# Altium footprint library PassiveSMT.PcbLib: 41 footprints (part 1 of 3)
Each footprint in its own frame and in the unit in brackets; x right, y up, seen from the top. Pads: shape width x height; smd on the part's side, far side on the other; paste and mask are expansions set on the pad; w line width, h text height; cw(c..) or ccw(c..) is an arc to the next point about the centre after c.
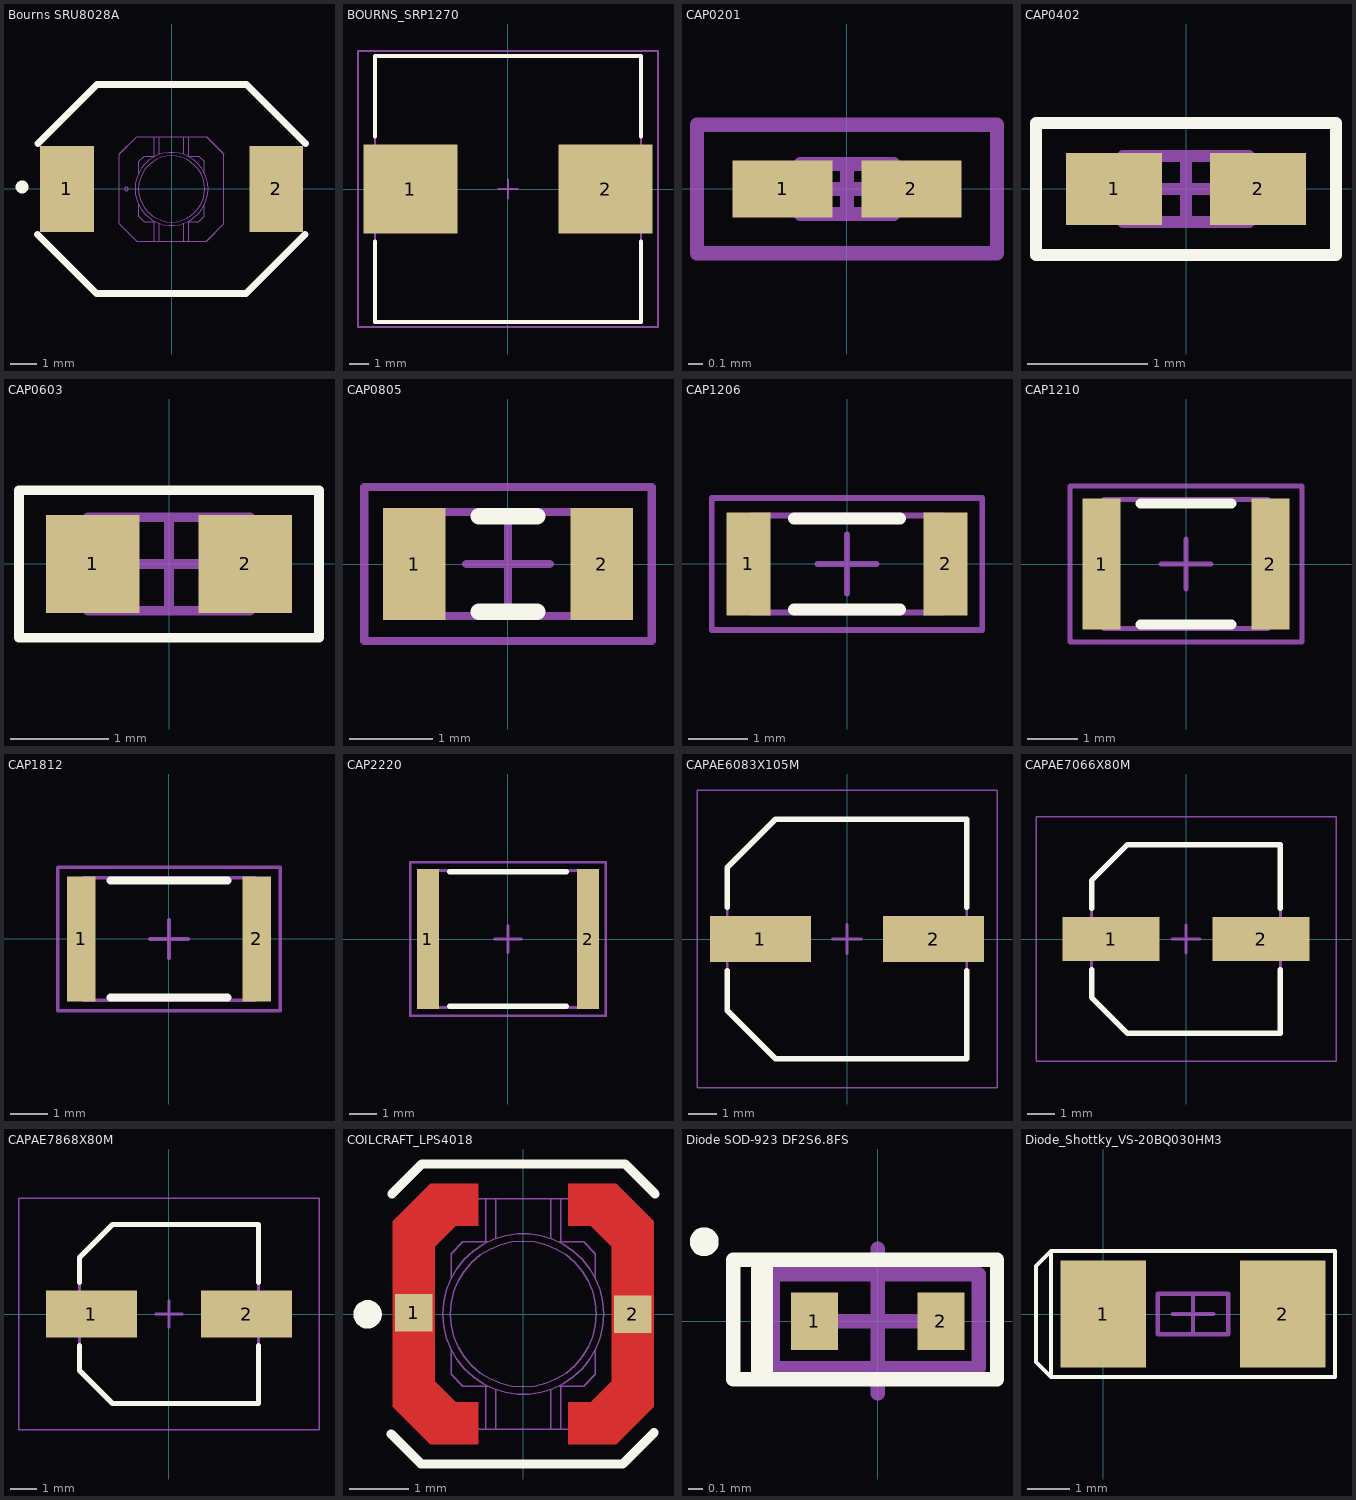
[diagram p0: the footprints below, top view; thin cyan lines are the x and y axes]

## Bourns SRU8028A [mm] "SRU8028A"
pads (2):
  rect 2x3.2 smd: 1(-3.9,0) 2(3.9,0)
Top Overlay:
  circle w0.254: c-5.575,0.075 r0.114
  lines w0.254: -5,-1.705 -2.8,-3.905 2.775,-3.905 4.975,-1.705 ; 5,1.7 2.8,3.9 -2.775,3.9 -4.975,1.7 ; -4.975,1.7 -4.975,1.7 ; 4.975,-1.705 4.975,-1.705
Mechanical 15:
  circle w0.025: c0,0 r1.235
  circle w0.025: c0,0 r1.361
  circle w0.025: c-1.684,0 r0.068
  lines w0.025: -1.948,0 -1.948,-1.304 -1.304,-1.948 0,-1.948 1.304,-1.948 1.948,-1.304 1.948,0 1.948,1.304 1.304,1.948 0,1.948 -1.304,1.948 -1.948,1.304 -1.948,0.017 ; -1.222,-0.594 -1.222,-1.024 -1.024,-1.222 -0.594,-1.222 ; -1.222,0.611 -1.222,1.024 -1.024,1.222 -0.611,1.222 ; -0.636,-1.948 -0.636,-1.205 ; -0.636,1.205 -0.636,1.948 ; -0.462,-1.948 -0.462,-1.288 ; -0.462,1.288 -0.462,1.948 ; 0.462,-1.948 0.462,-1.288 ; 0.462,1.288 0.462,1.948 ; 0.611,-1.222 1.024,-1.222 1.222,-1.024 1.222,-0.611 ; 0.611,1.222 1.024,1.222 1.222,1.024 1.222,0.611 ; 0.636,-1.948 0.636,-1.205 ; 0.636,1.205 0.636,1.948 ; -1.95,-1.3 -1.3,-1.95 0,-1.95 1.3,-1.95 1.95,-1.3 1.95,0 1.95,1.3 1.3,1.95 0,1.95 -1.3,1.95 -1.95,1.3 -1.95,0 -1.95,-1.3
3D body "Coilcraft-LPS4018-DEFAULT.STEP": height 1.8, standoff 0, extent -2.078,-2.128 2.028,1.978

## BOURNS_SRP1270 [mm] "Precision Wire Wound Inductor, 2-Leads, Body 13.7x13.7mm, IPC Medium Density"
height 7
pads (2):
  rect 4.85x4.6 smd: 1(-5.025,0) 2(5.025,0)
Top Overlay:
  lines w0.2: -6.85,-2.7 -6.85,-6.85 6.85,-6.85 6.85,-2.7 ; -6.85,2.7 -6.85,6.85 6.85,6.85 6.85,2.7
Mechanical 13:
  lines w0.1: -6.85,-6.85 -6.85,6.85 6.85,6.85 6.85,-6.85 -6.85,-6.85
Mechanical 15:
  lines w0.1: -0.5,0 0.5,0 ; 0,-0.5 0,0.5 ; -7.725,-7.1 -7.725,7.1 7.725,7.1 7.725,-7.1 -7.725,-7.1
3D body: height 7, standoff 0, extent -6.85,-6.85 6.85,6.85

## CAP0201 [mm] "Chip Capacitor, 2-Leads, Body 0.6x0.3mm, IPC Medium Density"
height 0.3
pads (2):
  rect 0.7x0.4 smd: 1(-0.45,0) 2(0.45,0)
Mechanical 13:
  lines w0.1: -0.325,-0.175 -0.325,0.175 0.325,0.175 0.325,-0.175 -0.325,-0.175
Mechanical 15:
  lines w0.1: -0.175,0 0.175,0 ; 0,-0.175 0,0.175 ; -1.05,-0.45 -1.05,0.45 1.05,0.45 1.05,-0.45 -1.05,-0.45
3D body: height 0.3, standoff 0, extent -0.325,-0.175 0.325,0.175

## CAP0402 [mm] "Chip Capacitor, 2-Leads, Body 1.0x0.5mm, IPC Medium Density"
height 0.5
pads (2):
  rect 0.8x0.6 smd: 1(-0.6,0) 2(0.6,0)
Top Overlay:
  lines w0.1: -1.25,-0.55 1.25,-0.55 1.25,0.55 -1.25,0.55 -1.25,-0.55
Mechanical 13:
  lines w0.1: -0.525,-0.275 -0.525,0.275 0.525,0.275 0.525,-0.275 -0.525,-0.275
Mechanical 15:
  lines w0.1: -0.275,0 0.275,0 ; 0,-0.275 0,0.275
3D body "CAP0402.stp": height 0.2, standoff 0, extent -0.5,-0.3 0.5,0.3

## CAP0603 [mm] "Chip Capacitor, 2-Leads, Body 1.6x0.8mm, IPC Medium Density"
height 0.8
pads (2):
  rect 0.95x1 smd: 1(-0.775,0) 2(0.775,0)
Top Overlay:
  lines w0.1: -1.525,-0.75 -1.525,0.75 1.525,0.75 1.525,-0.75 -1.525,-0.75
Mechanical 13:
  lines w0.1: -0.825,-0.475 -0.825,0.475 0.825,0.475 0.825,-0.475 -0.825,-0.475
Mechanical 15:
  lines w0.1: -0.475,0 0.475,0 ; 0,-0.475 0,0.475
3D body "RES0603.stp": height 0.45, standoff 0, extent -0.8,-0.4 0.8,0.4

## CAP0805 [mm] "Chip Capacitor, 2-Leads, Body 2.0x1.2mm, IPC Medium Density"
height 1.25
pads (2):
  rect 0.75x1.35 smd: 1(-1.125,0) 2(1.125,0)
Top Overlay:
  lines w0.2: -0.35,-0.575 0.35,-0.575 ; -0.35,0.575 0.35,0.575
Mechanical 13:
  lines w0.1: -1.025,-0.625 -1.025,0.625 1.025,0.625 1.025,-0.625 -1.025,-0.625
Mechanical 15:
  lines w0.1: -0.5,0 0.5,0 ; 0,-0.5 0,0.5 ; -1.725,-0.925 -1.725,0.925 1.725,0.925 1.725,-0.925 -1.725,-0.925
3D body "CAP0805.stp": height 0.78, standoff 0, extent -1,-0.625 1,0.625

## CAP1206 [mm] "Chip Capacitor, 2-Leads, Body 3.2x1.6mm, IPC Medium Density"
height 1.6
pads (2):
  rect 0.75x1.75 smd: 1(-1.675,0) 2(1.675,0)
Top Overlay:
  lines w0.2: -0.9,-0.775 0.9,-0.775 ; -0.9,0.775 0.9,0.775
Mechanical 13:
  lines w0.1: -1.625,-0.825 1.625,-0.825 1.625,0.825 -1.625,0.825 -1.625,-0.825
Mechanical 15:
  lines w0.1: -0.5,0 0.5,0 ; 0,-0.5 0,0.5 ; -2.3,-1.125 2.3,-1.125 2.3,1.125 -2.3,1.125 -2.3,-1.125
3D body "CAP1206.stp": height 1, standoff 0, extent -1.6,-0.8 1.6,0.8

## CAP1210 [mm] "Chip Capacitor, 2-Leads, Body 3.2x2.5mm, IPC Medium Density"
height 2.5
pads (2):
  rect 0.75x2.6 smd: 1(-1.675,0) 2(1.675,0)
Top Overlay:
  lines w0.2: -0.9,-1.2 0.9,-1.2 ; -0.9,1.2 0.9,1.2
Mechanical 13:
  lines w0.1: -1.625,-1.275 1.625,-1.275 1.625,1.275 -1.625,1.275 -1.625,-1.275
Mechanical 15:
  lines w0.1: -0.5,0 0.5,0 ; 0,-0.5 0,0.5 ; -2.3,-1.55 2.3,-1.55 2.3,1.55 -2.3,1.55 -2.3,-1.55
3D body "CAP1210.stp": height 0.92, standoff -0.02, extent -1.6,-1.25 1.6,1.25

## CAP1812 [mm] "Chip Capacitor, 2-Leads, Body 4.5x3.2mm, IPC Medium Density"
height 3.2
pads (2):
  rect 0.75x3.3 smd: 1(-2.325,0) 2(2.325,0)
Top Overlay:
  lines w0.2: -1.55,-1.55 1.55,-1.55 ; -1.55,1.55 1.55,1.55
Mechanical 13:
  lines w0.1: -2.275,-1.625 -2.275,1.625 2.275,1.625 2.275,-1.625 -2.275,-1.625
Mechanical 15:
  lines w0.1: -0.5,0 0.5,0 ; 0,-0.5 0,0.5 ; -2.95,-1.9 -2.95,1.9 2.95,1.9 2.95,-1.9 -2.95,-1.9
3D body "CAP1812.stp": height 1.6, standoff 0, extent -2.25,-1.6 2.25,1.6

## CAP2220 [mm] "Chip Capacitor, 2-Leads, Body 5.7x5.0mm, IPC Medium Density"
height 2.8
pads (2):
  rect 0.8x5.15 smd: 1(-2.95,0) 2(2.95,0)
Top Overlay:
  lines w0.2: -2.15,-2.475 2.15,-2.475 ; -2.15,2.475 2.15,2.475
Mechanical 13:
  lines w0.1: -2.875,-2.525 -2.875,2.525 2.875,2.525 2.875,-2.525 -2.875,-2.525
Mechanical 15:
  lines w0.1: -0.5,0 0.5,0 ; 0,-0.5 0,0.5 ; -3.6,-2.825 -3.6,2.825 3.6,2.825 3.6,-2.825 -3.6,-2.825
3D body "CAP2220.stp": height 2.24, standoff -0.04, extent -2.85,-2.5 2.85,2.5

## CAPAE6083X105M [mm] "Aluminum Electrolytic Capacitor, Body 8,30x8,30x10,50mm, IPC Low Density MCVVT6R3M102FB3L"
height 10.5
pads (2):
  rect 3.5x1.6 smd: 1(-3,0) 2(3,0)
Top Overlay:
  lines w0.2: -4.15,-1.1 -4.15,-2.475 -2.475,-4.15 4.15,-4.15 4.15,-1.1 ; -4.15,1.1 -4.15,2.475 -2.475,4.15 4.15,4.15 4.15,1.1
Mechanical 13:
  lines w0.1: -4.15,-2.475 -4.15,2.475 -2.475,4.15 4.15,4.15 4.15,-4.15 -2.475,-4.15 -4.15,-2.475
Mechanical 15:
  lines w0.05: -5.2,-5.15 5.2,-5.15 5.2,5.15 -5.2,5.15 -5.2,-5.15
  lines w0.1: -0.5,0 0.5,0 ; 0,-0.5 0,0.5
3D body: height 10.5, standoff 0, extent -4.25,-4.25 4.216,4.233
3D body: height 3.5, standoff 0, extent -4.15,-4.15 4.15,4.15

## CAPAE7066X80M [mm] "Aluminum Electrolytic Capacitor, Body 6,60x6,60x8,00mm, IPC Low Density  UWT1C221MCL1GS"
height 8
pads (2):
  rect 3.5x1.6 smd: 1(-2.7,0) 2(2.7,0)
Top Overlay:
  lines w0.2: -3.4,-1.1 -3.4,-2.1 -2.1,-3.4 3.4,-3.4 3.4,-1.1 ; -3.4,1.1 -3.4,2.1 -2.1,3.4 3.4,3.4 3.4,1.1
Mechanical 13:
  lines w0.1: -3.4,-2.1 -2.1,-3.4 3.4,-3.4 3.4,3.4 -2.1,3.4 -3.4,2.1 -3.4,-2.1
Mechanical 15:
  lines w0.05: -5.4,-4.4 -5.4,4.4 5.4,4.4 5.4,-4.4 -5.4,-4.4
  lines w0.1: -0.5,0 0.5,0 ; 0,-0.5 0,0.5
3D body: height 2.67, standoff 0, extent -3.4,-3.4 3.4,3.4
3D body: height 8, standoff 0, extent -3.4,-3.4 3.373,3.387

## CAPAE7868X80M [mm] "Aluminum Electrolytic Capacitor, Body 6,80x6,80x8,00mm, IPC Low Density"
height 8
pads (2):
  rect 3.45x1.8 smd: 1(-2.95,0) 2(2.95,0)
Top Overlay:
  lines w0.2: -3.4,-1.2 -3.4,-2.15 -2.15,-3.4 3.4,-3.4 3.4,-1.2 ; -3.4,1.2 -3.4,2.15 -2.15,3.4 3.4,3.4 3.4,1.2
Mechanical 13:
  lines w0.1: -3.4,-2.15 -2.15,-3.4 3.4,-3.4 3.4,3.4 -2.15,3.4 -3.4,2.15 -3.4,-2.15
Mechanical 15:
  lines w0.05: -5.7,-4.4 -5.7,4.4 5.7,4.4 5.7,-4.4 -5.7,-4.4
  lines w0.1: -0.5,0 0.5,0 ; 0,-0.5 0,0.5
3D body: height 2.67, standoff 0, extent -3.4,-3.4 3.4,3.4
3D body: height 8, standoff 0, extent -3.15,-3.15 3.125,3.138

## COILCRAFT_LPS4018 [mil]
height 70.87
pads (2):
  rect 25x25 smd: 1(-73,1) 2(73,0)
Top Layer:
  region: -30,87 -62,87 -87,62 -87,-62 -62,-87 -30,-87 -30,-59 -45,-59 -59,-45 -59,45 -45,59 -30,59
  region: 30,87 62,87 87,62 87,-62 62,-87 30,-87 30,-59 45,-59 59,-45 59,45 45,59 30,59
Top Overlay:
  circle w10: c-103.79,-0.21 r4.5
  lines w6: -88,-80 -68,-100 66.25,-100 87.25,-79 ; -87.5,80 -67.5,100 68,100 88,80
Top Solder:
  region: 30,87 62,87 87,62 87,-62 62,-87 30,-87 30,-59 45,-59 59,-45 59,45 45,59 30,59
  region: -30,87 -62,87 -87,62 -87,-62 -62,-87 -30,-87 -30,-59 -45,-59 -59,-45 -59,45 -45,59 -30,59
Mechanical 15:
  circle w1: c-66.3,0 r2.68
  circle w1: c0,0 r53.6
  circle w1: c0,0 r48.62
  lines w1: -76.7,0 -76.7,-51.35 -51.35,-76.7 0,-76.7 51.35,-76.7 76.7,-51.35 76.7,0 76.7,51.35 51.35,76.7 0,76.7 -51.35,76.7 -76.7,51.35 -76.7,0.65 ; -48.1,-23.4 -48.1,-40.3 -40.3,-48.1 -23.4,-48.1 ; -48.1,24.05 -48.1,40.3 -40.3,48.1 -24.05,48.1 ; -25.03,-76.7 -25.03,-47.45 ; -25.03,47.45 -25.03,76.7 ; -18.2,-76.7 -18.2,-50.7 ; -18.2,50.7 -18.2,76.7 ; 18.2,-76.7 18.2,-50.7 ; 18.2,50.7 18.2,76.7 ; 24.05,-48.1 40.3,-48.1 48.1,-40.3 48.1,-24.05 ; 24.05,48.1 40.3,48.1 48.1,40.3 48.1,24.05 ; 25.03,-76.7 25.03,-47.45 ; 25.03,47.45 25.03,76.7 ; -76.77,-51.18 -76.77,0 -76.77,51.18 -51.18,76.77 0,76.77 51.18,76.77 76.77,51.18 76.77,0 76.77,-51.18 51.18,-76.77 0,-76.77 -51.18,-76.77 -76.77,-51.18
3D body "Coilcraft-LPS4018-DEFAULT.STEP": height 70.87, standoff 0, extent -81.8,-83.77 79.85,77.88

## Diode SOD-923 DF2S6.8FS [mm] "DF2S6.8FS"
pads (2):
  rect 0.325x0.4 smd: 1(-0.437,0) 2(0.437,0)
Top Overlay:
  circle w0.1: c-1.2,0.55 r0.05
  region: -0.725,0.375 -0.875,0.375 -0.875,-0.4 -0.725,-0.4
  lines w0.1: -1,-0.4 0.825,-0.4 0.825,0.425 -1,0.425 -1,-0.4
Mechanical 13:
  lines w0.1: -0.725,-0.325 0.7,-0.325 0.7,0.325 -0.725,0.325 -0.725,-0.325
Mechanical 15:
  lines w0.1: -0.5,0 0.5,0 ; 0,-0.5 0,0.5
3D body: height 1.17, standoff 0, extent -1,-0.4 0.825,0.425

## Diode_Shottky_VS-20BQ030HM3 [mm] "Diode_Shottky_VS-20BQ030HM3"
pads (2):
  rect 2x2.5 smd: 1(0,0) 2(4.2,0)
Top Overlay:
  lines w0.1: 1.788,-1.475 5.425,-1.475 5.425,0.025 ; 1.787,1.475 5.425,1.475 5.425,-0.025 ; 1.825,-1.475 1.063,-1.475 -0.462,-1.475 -1.225,-1.475 ; 1.825,1.475 1.062,1.475 -0.463,1.475 -1.225,1.475 ; -1.225,-1.475 -1.575,-1.125 -1.575,-0.125 -1.575,1.125 -1.225,1.475 ; -1.225,-1.475 -1.225,0.025 -1.225,-1.475 ; -1.225,1.475 -1.225,-0.025 -1.225,1.475
Mechanical 13:
  lines w0.1: 1.275,-0.475 2.925,-0.475 2.925,0.475 1.275,0.475 1.275,-0.475
Mechanical 15:
  lines w0.1: 1.625,0 2.575,0 ; 2.1,-0.475 2.1,0.475
3D body "RES0603.stp": height 0.45, standoff 0, extent 1.3,-0.4 2.9,0.4